# EAGLE library part ISD1820 (library reprapltd)
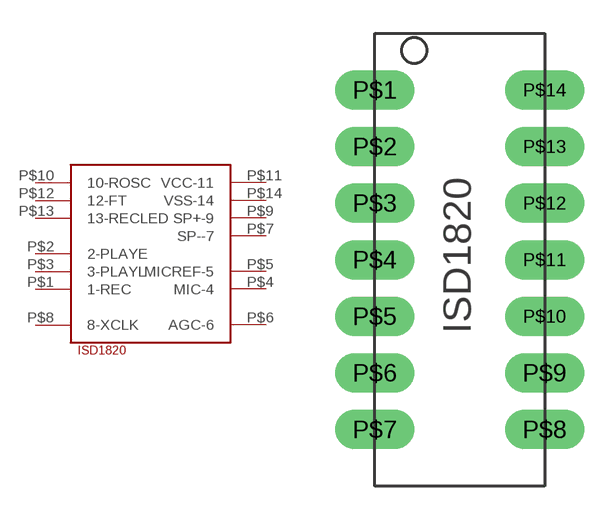
[diagram p5: symbol with the pads of ISD1820; footprint ISD1820]

Designator prefix -

## ISD1820  [ISD1820]
P$1  1-REC
P$2  2-PLAYE
P$3  3-PLAYL
P$4  MIC-4  in
P$5  MICREF-5  in
P$6  AGC-6
P$7  SP--7  out
P$8  8-XCLK
P$9  SP+-9  out
P$10  10-ROSC
P$11  VCC-11  pwr
P$12  12-FT
P$13  13-RECLED
P$14  VSS-14  pwr

## Footprint ISD1820 (pad centres in mm)
drill 0.8 pad 1.778 long: P$1 0,17.78; P$2 0,15.24; P$3 0,12.7; P$4 0,10.16; P$5 0,7.62; P$6 0,5.08; P$7 0,2.54; P$8 7.62,2.54; P$9 7.62,5.08; P$10 7.62,7.62; P$11 7.62,10.16; P$12 7.62,12.7; P$13 7.62,15.24; P$14 7.62,17.78